# Altium schematic symbol library IC_Texas_Instruments_LMP7702MA_eec.SchLib: 1 symbol
Pins are listed as number, name and electrical type; pins without a type are passive.

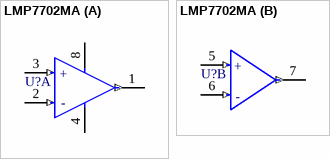
[diagram p0: symbol LMP7702MA]

## LMP7702MA
designator U?  (value not drawn)
part A pins: 1 OUT A (out), 2 IN A- (in), 3 IN A+ (in), 4 V- (power), 8 V+ (power)
part B pins: 5 IN B+ (in), 6 IN B- (in), 7 OUT B (out)
part A text: +; -
part B text: +; -